# EAGLE library part I2C-BUS (library con-special_purpose)
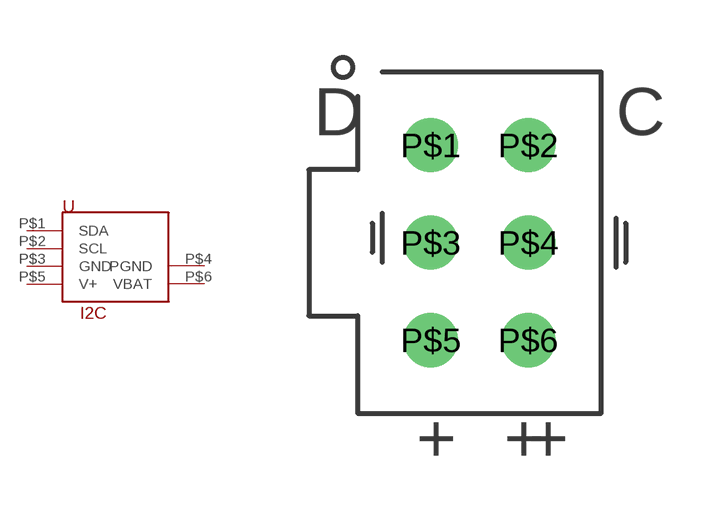
[diagram p5: symbol with the pads of I2C-HEADER; footprint I2C-HEADER]

Designator prefix -

## I2C-BUS (PLACE_PART: YES)  [I2C-HEADER]
P$1  SDA
P$2  SCL
P$3  GND
P$4  PGND
P$5  V+
P$6  VBAT

## Footprint I2C-HEADER (pad centres in mm)
drill 0.9: P$1 -2.54,5.08; P$2 0,5.08; P$3 -2.54,2.54; P$4 0,2.54; P$5 -2.54,0; P$6 0,0